# Altium footprint library 2020-09-22_00-43-52.PcbLib: 1 footprints
Each footprint in its own frame and in the unit in brackets; x right, y up, seen from the top. Pads: shape width x height; smd on the part's side, far side on the other; paste and mask are expansions set on the pad; w line width, h text height; cw(c..) or ccw(c..) is an arc to the next point about the centre after c.
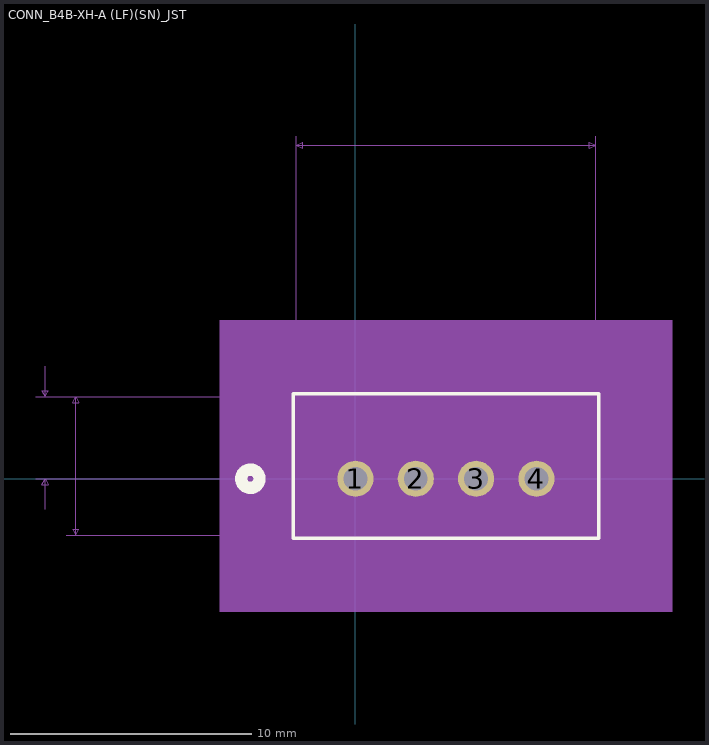
[diagram p0: the footprint, top view; thin cyan lines are the x and y axes]

## CONN_B4B-XH-A (LF)(SN)_JST [mil]
pads (4):
  round 59 hole 39 mask+0: 1(0,0) 2(98.43,0) 3(196.86,0) 4(295.29,0)
Top Overlay:
  circle w20: c-171.35,0 r15
  lines w6: -101.36,-97.14 396.64,-97.14 396.64,138.86 -101.36,138.86 -101.36,-97.14
Bottom Overlay:
  circle w20: c-171.35,0 r15
Mechanical 5:
  region: -221.35,258.86 516.64,258.86 516.64,-217.14 -221.35,-217.14
Mechanical 7:
  lines w1: -521.36,0 147.65,0 ; -521.36,133.86 -96.36,133.86 ; -506.36,-50 -506.36,0 ; -506.36,183.86 -506.36,133.86 ; -471.36,-92.14 -96.36,-92.14 ; -471.36,133.86 -96.36,133.86 ; -96.36,558.86 -96.36,133.86 ; -50,218.86 0,218.86 ; 0,233.86 0,0 ; 98.43,0 98.43,233.86 ; 148.43,218.86 98.43,218.86 ; 391.64,133.86 391.64,558.86 ; 491.64,-50 491.64,0 ; 491.64,50 491.64,0 ; -506.36,0 -511.36,-10 -501.36,-10 -506.36,0 ; -506.36,133.86 -511.36,143.86 -501.36,143.86 -506.36,133.86 ; -456.36,-92.14 -456.36,133.86 ; -456.36,-92.14 -461.36,-82.14 -451.36,-82.14 -456.36,-92.14 ; -456.36,133.86 -461.36,123.86 -451.36,123.86 -456.36,133.86 ; -96.36,543.86 391.64,543.86 ; -96.36,543.86 -86.36,548.86 -86.36,538.86 -96.36,543.86 ; 0,0 506.64,0 0,0 ; 0,218.86 -10,223.86 -10,213.86 0,218.86 ; 98.43,218.86 108.43,223.86 108.43,213.86 98.43,218.86 ; 391.64,543.86 381.64,548.86 381.64,538.86 391.64,543.86 ; 491.64,0 486.64,10 496.64,10 491.64,0 ; 491.64,0 486.64,-10 496.64,-10 491.64,0
  text "Default Padstyle: EX59Y59D39P" at -214.85,-252.14 h50
  text "1st Mtg Padstyle: EX91Y91D71P" at -214.85,-327.14 h50
  text "2nd Mtg Padstyle: EX70Y70D70P" at -214.85,-402.14 h50
  text "3rd Mtg Padstyle: EX70Y70D70P" at -214.85,-477.14 h50
  text "Left Mtg Padstyle: EX60Y60D30P" at -227.35,-552.14 h50
  text "Right Mtg Padstyle: EX60Y60D30P" at -239.85,-627.14 h50
  text "Alt Padstyle 1: OX60Y90D30P" at -189.85,-702.14 h50
  text "Alt Padstyle 2: OX90Y60D30P" at -189.85,-777.14 h50
  text "0.098in/2.5mm" at -56.64,238.86 h25
  text "0.488in/12.395mm" at 47.65,563.86 h25
  text "0in/0mm" at 511.64,-12.5 h25
  text "0.134in/3.4mm" at -688.86,54.43 h25
  text "0.226in/5.74mm" at -651.36,8.36 h25
Mechanical 13:
  circle w20: c0,-75 r15
  lines w1: -96.36,-92.14 391.64,-92.14 391.64,133.86 -96.36,133.86 -96.36,-92.14
Mechanical 15:
  region: 401.64,143.86 -106.36,143.86 -106.36,-102.14 401.64,-102.14
  lines w6: -106.36,-102.14 -106.36,143.86 401.64,143.86 401.64,-102.14 -106.36,-102.14
3D body: height 10, standoff 0, extent 0,0 10,10